# Altium schematic symbol library Schlib1.SchLib: 1 symbol
Pins are listed as number, name and electrical type; pins without a type are passive.

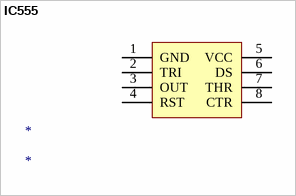
[diagram p0: symbol IC555]

## IC555
designator *
pins: 1 GND, 2 TRI, 3 OUT, 4 RST, 5 VCC, 6 DS, 7 THR, 8 CTR